# Altium schematic symbol library SKY13588-460LF.SchLib: 1 symbol
Pins are listed as number, name and electrical type; pins without a type are passive.

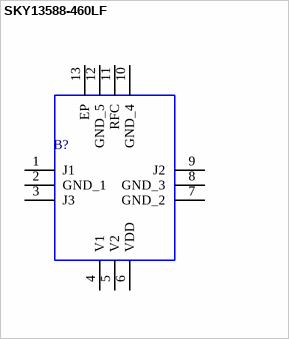
[diagram p0: symbol SKY13588-460LF]

## SKY13588-460LF
designator B?
RF Switch ICs .1-6GHz SP3T IL .45dB -40C +105C; Manufacturer_Name: Skyworks; Geometry.Height: 0.65mm; Mouser Part Number: 873-SKY13588-460LF; Mouser Price/Stock: https://www.mouser.co.uk/ProductDetail/Skyworks-Solutions-Inc/SKY13588-460LF?qs=Xy3FNZO%2FEu8q7ADFn9Z8ag%3D%3D; Manufacturer_Part_Number: SKY13588-460LF; Datasheet Link: https://www.skyworksinc.com/-/media/SkyWorks/Documents/Products/2201-2300/SKY13588_460LF_203512D.pdf
footprint QFN50P200X200X65-13N-D
pins: 1 J1, 2 GND_1, 3 J3, 4 V1, 5 V2, 6 VDD, 7 GND_2, 8 GND_3, 9 J2, 10 GND_4, 11 RFC, 12 GND_5, 13 EP